# EAGLE library part LPC1769 (library personal)
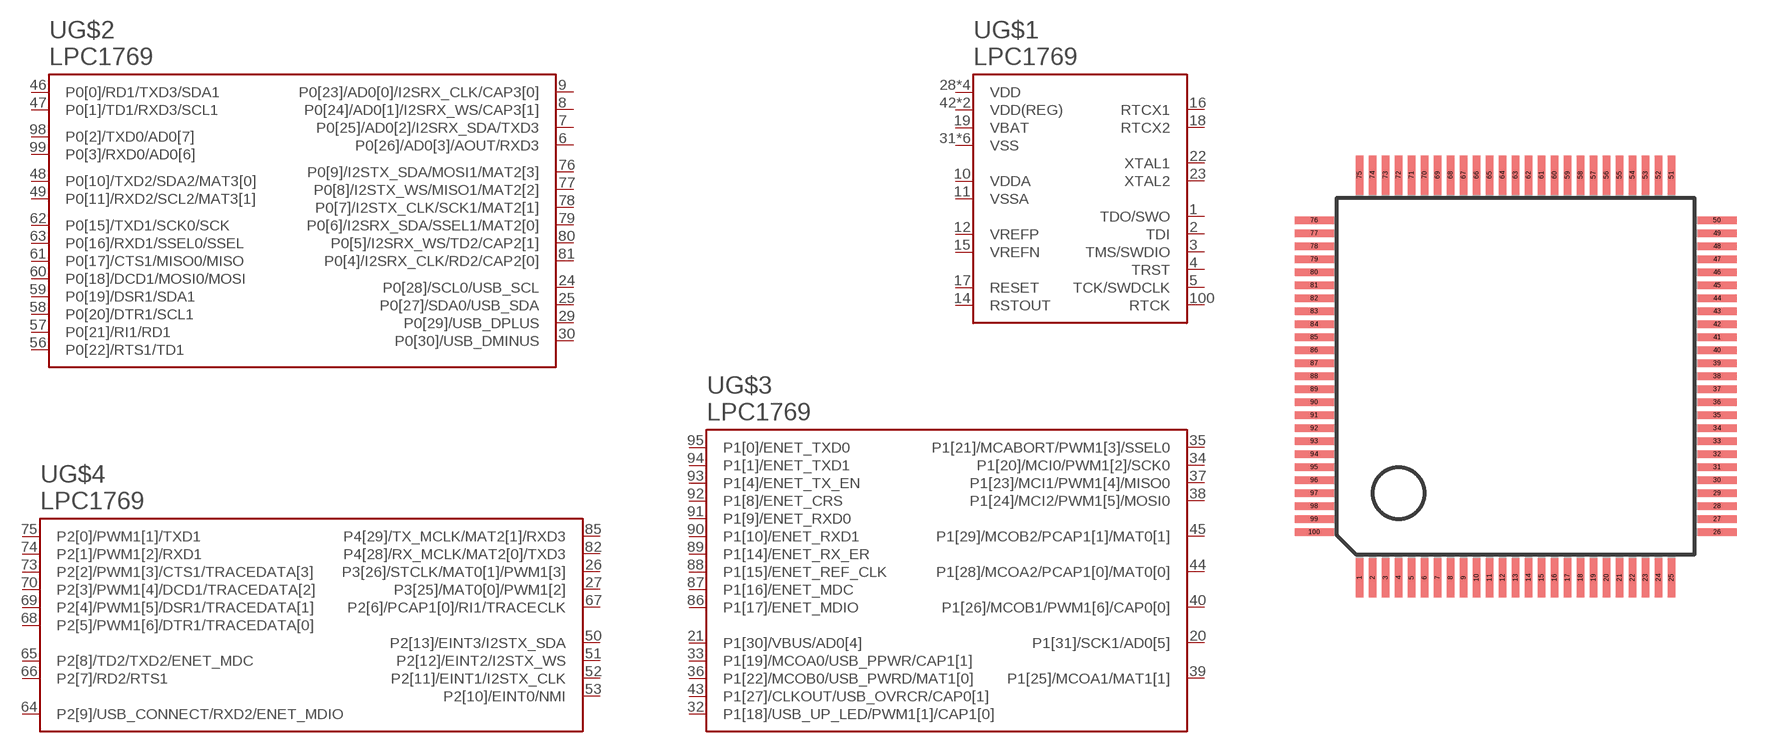
[diagram p13: symbol with the pads of LQFP100-14X14; footprint LQFP100-14X14]

Designator prefix U; gates G$1=LPC176X-PWR G$2=LPC176X-PORT0 G$3=LPC176X-PORT1 G$4=LPC1769-PORT234

## LPC1769  [LQFP100-14X14]
1  G$1:TDO/SWO
2  G$1:TDI
3  G$1:TMS/SWDIO
4  G$1:TRST
5  G$1:TCK/SWDCLK
6  G$2:P0[26]/AD0[3]/AOUT/RXD3
7  G$2:P0[25]/AD0[2]/I2SRX_SDA/TXD3
8  G$2:P0[24]/AD0[1]/I2SRX_WS/CAP3[1]
9  G$2:P0[23]/AD0[0]/I2SRX_CLK/CAP3[0]
10  G$1:VDDA
11  G$1:VSSA
12  G$1:VREFP
14  G$1:RSTOUT
15  G$1:VREFN
16  G$1:RTCX1
17  G$1:RESET
18  G$1:RTCX2
19  G$1:VBAT
20  G$3:P1[31]/SCK1/AD0[5]
21  G$3:P1[30]/VBUS/AD0[4]
22  G$1:XTAL1
23  G$1:XTAL2
24  G$2:P0[28]/SCL0/USB_SCL
25  G$2:P0[27]/SDA0/USB_SDA
26  G$4:P3[26]/STCLK/MAT0[1]/PWM1[3]
27  G$4:P3[25]/MAT0[0]/PWM1[2]
28  G$1:VDD
29  G$2:P0[29]/USB_DPLUS
30  G$2:P0[30]/USB_DMINUS
31  G$1:VSS
32  G$3:P1[18]/USB_UP_LED/PWM1[1]/CAP1[0]
33  G$3:P1[19]/MCOA0/USB_PPWR/CAP1[1]
34  G$3:P1[20]/MCI0/PWM1[2]/SCK0
35  G$3:P1[21]/MCABORT/PWM1[3]/SSEL0
36  G$3:P1[22]/MCOB0/USB_PWRD/MAT1[0]
37  G$3:P1[23]/MCI1/PWM1[4]/MISO0
38  G$3:P1[24]/MCI2/PWM1[5]/MOSI0
39  G$3:P1[25]/MCOA1/MAT1[1]
40  G$3:P1[26]/MCOB1/PWM1[6]/CAP0[0]
41  G$1:VSS
42  G$1:VDD(REG)
43  G$3:P1[27]/CLKOUT/USB_OVRCR/CAP0[1]
44  G$3:P1[28]/MCOA2/PCAP1[0]/MAT0[0]
45  G$3:P1[29]/MCOB2/PCAP1[1]/MAT0[1]
46  G$2:P0[0]/RD1/TXD3/SDA1
47  G$2:P0[1]/TD1/RXD3/SCL1
48  G$2:P0[10]/TXD2/SDA2/MAT3[0]
49  G$2:P0[11]/RXD2/SCL2/MAT3[1]
50  G$4:P2[13]/EINT3/I2STX_SDA
51  G$4:P2[12]/EINT2/I2STX_WS
52  G$4:P2[11]/EINT1/I2STX_CLK
53  G$4:P2[10]/EINT0/NMI
54  G$1:VDD
55  G$1:VSS
56  G$2:P0[22]/RTS1/TD1
57  G$2:P0[21]/RI1/RD1
58  G$2:P0[20]/DTR1/SCL1
59  G$2:P0[19]/DSR1/SDA1
60  G$2:P0[18]/DCD1/MOSI0/MOSI
61  G$2:P0[17]/CTS1/MISO0/MISO
62  G$2:P0[15]/TXD1/SCK0/SCK
63  G$2:P0[16]/RXD1/SSEL0/SSEL
64  G$4:P2[9]/USB_CONNECT/RXD2/ENET_MDIO
65  G$4:P2[8]/TD2/TXD2/ENET_MDC
66  G$4:P2[7]/RD2/RTS1
67  G$4:P2[6]/PCAP1[0]/RI1/TRACECLK
68  G$4:P2[5]/PWM1[6]/DTR1/TRACEDATA[0]
69  G$4:P2[4]/PWM1[5]/DSR1/TRACEDATA[1]
70  G$4:P2[3]/PWM1[4]/DCD1/TRACEDATA[2]
71  G$1:VDD
72  G$1:VSS
73  G$4:P2[2]/PWM1[3]/CTS1/TRACEDATA[3]
74  G$4:P2[1]/PWM1[2]/RXD1
75  G$4:P2[0]/PWM1[1]/TXD1
76  G$2:P0[9]/I2STX_SDA/MOSI1/MAT2[3]
77  G$2:P0[8]/I2STX_WS/MISO1/MAT2[2]
78  G$2:P0[7]/I2STX_CLK/SCK1/MAT2[1]
79  G$2:P0[6]/I2SRX_SDA/SSEL1/MAT2[0]
80  G$2:P0[5]/I2SRX_WS/TD2/CAP2[1]
81  G$2:P0[4]/I2SRX_CLK/RD2/CAP2[0]
82  G$4:P4[28]/RX_MCLK/MAT2[0]/TXD3
83  G$1:VSS
84  G$1:VDD(REG)
85  G$4:P4[29]/TX_MCLK/MAT2[1]/RXD3
86  G$3:P1[17]/ENET_MDIO
87  G$3:P1[16]/ENET_MDC
88  G$3:P1[15]/ENET_REF_CLK
89  G$3:P1[14]/ENET_RX_ER
90  G$3:P1[10]/ENET_RXD1
91  G$3:P1[9]/ENET_RXD0
92  G$3:P1[8]/ENET_CRS
93  G$3:P1[4]/ENET_TX_EN
94  G$3:P1[1]/ENET_TXD1
95  G$3:P1[0]/ENET_TXD0
96  G$1:VDD
97  G$1:VSS
98  G$2:P0[2]/TXD0/AD0[7]
99  G$2:P0[3]/RXD0/AD0[6]
100  G$1:RTCK

## Footprint LQFP100-14X14 (pad centres in mm)
LQFP100 Low profile Quad Flat Package 14x14x1.4 mm
smd 0.27 x 1.5: 1 -6,-7.75; 2 -5.5,-7.75; 3 -5,-7.75; 4 -4.5,-7.75; 5 -4,-7.75; 6 -3.5,-7.75; 7 -3,-7.75; 8 -2.5,-7.75; 9 -2,-7.75; 10 -1.5,-7.75; 11 -1,-7.75; 12 -0.5,-7.75; 13 0,-7.75; 14 0.5,-7.75; 15 1,-7.75; 16 1.5,-7.75; 17 2,-7.75; 18 2.5,-7.75; 19 3,-7.75; 20 3.5,-7.75; 21 4,-7.75; 22 4.5,-7.75; 23 5,-7.75; 24 5.5,-7.75; 25 6,-7.75; 51 6,7.75; 52 5.5,7.75; 53 5,7.75; 54 4.5,7.75; 55 4,7.75; 56 3.5,7.75; 57 3,7.75; 58 2.5,7.75; 59 2,7.75; 60 1.5,7.75; 61 1,7.75; 62 0.5,7.75; 63 0,7.75; 64 -0.5,7.75; 65 -1,7.75; 66 -1.5,7.75; 67 -2,7.75; 68 -2.5,7.75; 69 -3,7.75; 70 -3.5,7.75; 71 -4,7.75; 72 -4.5,7.75; 73 -5,7.75; 74 -5.5,7.75; 75 -6,7.75
smd 1.5 x 0.27: 26 7.75,-6; 27 7.75,-5.5; 28 7.75,-5; 29 7.75,-4.5; 30 7.75,-4; 31 7.75,-3.5; 32 7.75,-3; 33 7.75,-2.5; 34 7.75,-2; 35 7.75,-1.5; 36 7.75,-1; 37 7.75,-0.5; 38 7.75,0; 39 7.75,0.5; 40 7.75,1; 41 7.75,1.5; 42 7.75,2; 43 7.75,2.5; 44 7.75,3; 45 7.75,3.5; 46 7.75,4; 47 7.75,4.5; 48 7.75,5; 49 7.75,5.5; 50 7.75,6; 76 -7.75,6; 77 -7.75,5.5; 78 -7.75,5; 79 -7.75,4.5; 80 -7.75,4; 81 -7.75,3.5; 82 -7.75,3; 83 -7.75,2.5; 84 -7.75,2; 85 -7.75,1.5; 86 -7.75,1; 87 -7.75,0.5; 88 -7.75,0; 89 -7.75,-0.5; 90 -7.75,-1; 91 -7.75,-1.5; 92 -7.75,-2; 93 -7.75,-2.5; 94 -7.75,-3; 95 -7.75,-3.5; 96 -7.75,-4; 97 -7.75,-4.5; 98 -7.75,-5; 99 -7.75,-5.5; 100 -7.75,-6